# EAGLE library part NJ6FD-V (library con_neutrik_ag__Jack6,35)
3 x switching (normalling) stereo jack (T/TN/R/RN/S/SN) Vertical PCB mount panel jack in A-gauge version with gold plated contacts and unique quick fixing cap for rapid panel mounting. Separation of mechanical latch and electrical contacts offers high retention force combined with low insertion force.
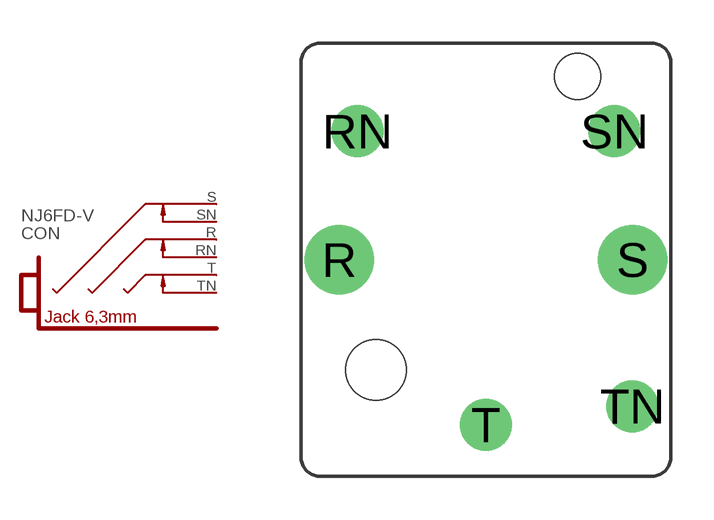
[diagram p0: symbol with the pads of NJ6FD-V; footprint NJ6FD-V]

Designator prefix CON

## NJ6FD-V  [NJ6FD-V]
R  R  pas
RN  RN  pas
S  S  pas
SN  SN  pas
T  T  pas
TN  TN  pas

## Footprint NJ6FD-V (pad centres in mm)
drill 1.6 round: R -5.08,0; S 5.08,0
drill 1.2 round: RN -4.45,4.45; SN 4.45,4.45; T 0,-5.72; TN 5.08,-5.08
hole 2.1 at -3.81,-3.81
hole 1.6 at 3.18,6.35